# EAGLE library part WIRELESS-LORA-RFM95W (library mam2020)
868/915 MHz LoRa Radio Transceiver Module based on SX1276 chip Click here to find device on ebay.com <http://www.ebay.com/sch/RFM95W+transceiver>
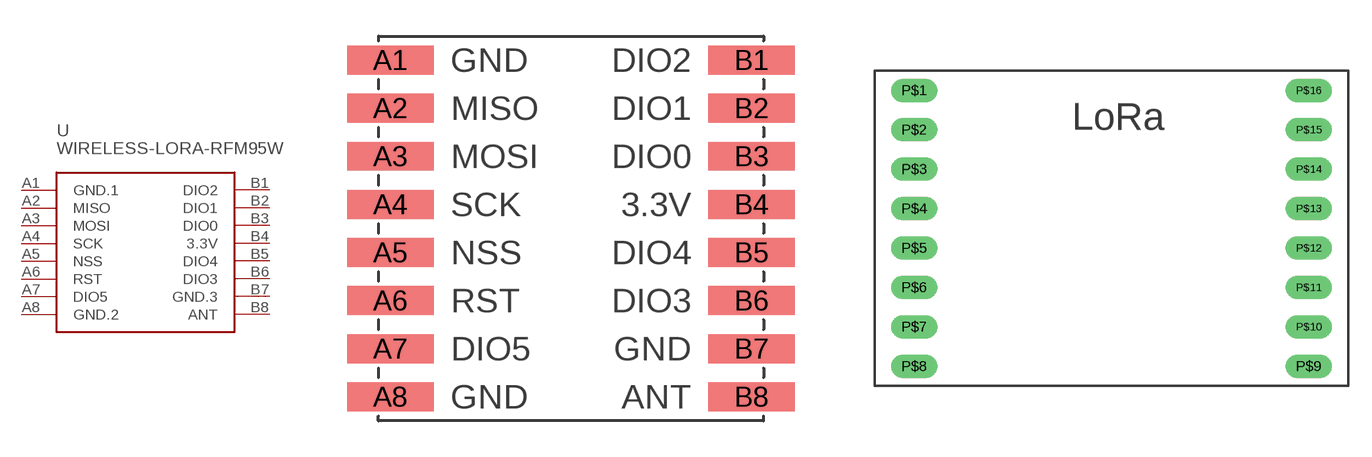
[diagram p0: symbol with the pads of WIRELESS-LORA-RFM95W#SMD; footprints WIRELESS-LORA-RFM95W#SMD, LORA-BREAKOUT]

Designator prefix -

## WIRELESS-LORA-RFM95W#SMD  [WIRELESS-LORA-RFM95W#SMD]
A1  GND.1  pwr
A2  MISO
A3  MOSI
A4  SCK
A5  NSS
A6  RST
A7  DIO5
A8  GND.2  pwr
B1  DIO2
B2  DIO1
B3  DIO0
B4  3.3V  pwr
B5  DIO4
B6  DIO3
B7  GND.3  pwr
B8  ANT  pas

## WIRELESS-LORA-RFM95W  [LORA-BREAKOUT]
P$1  GND.1  pwr
P$2  MISO
P$3  MOSI
P$4  SCK
P$5  NSS
P$6  RST
P$7  DIO5
P$8  GND.2  pwr
P$9  ANT  pas
P$10  GND.3  pwr
P$11  DIO3
P$12  DIO4
P$13  3.3V  pwr
P$14  DIO0
P$15  DIO1
P$16  DIO2

## Footprint WIRELESS-LORA-RFM95W#SMD (pad centres in mm)
868/915 MHz LoRa Radio Transceiver Module Footprint for SMD assembly.
smd 3.6 x 1.2: A1 -7.5,7; A2 -7.5,5; A3 -7.5,3; A4 -7.5,1; A5 -7.5,-1; A6 -7.5,-3; A7 -7.5,-5; A8 -7.5,-7; B1 7.5,7; B2 7.5,5; B3 7.5,3; B4 7.5,1; B5 7.5,-1; B6 7.5,-3; B7 7.5,-5; B8 7.5,-7

## Footprint LORA-BREAKOUT (pad centres in mm)
drill 1 long: P$1 -12.7,7.62; P$2 -12.7,5.08; P$3 -12.7,2.54; P$4 -12.7,0; P$5 -12.7,-2.54; P$6 -12.7,-5.08; P$7 -12.7,-7.62; P$8 -12.7,-10.16; P$9 12.7,-10.16; P$10 12.7,-7.62; P$11 12.7,-5.08; P$12 12.7,-2.54; P$13 12.7,0; P$14 12.7,2.54; P$15 12.7,5.08; P$16 12.7,7.62